# Altium schematic symbol library Reference_Voltage.SchLib: 343 symbols (part 3 of 4)
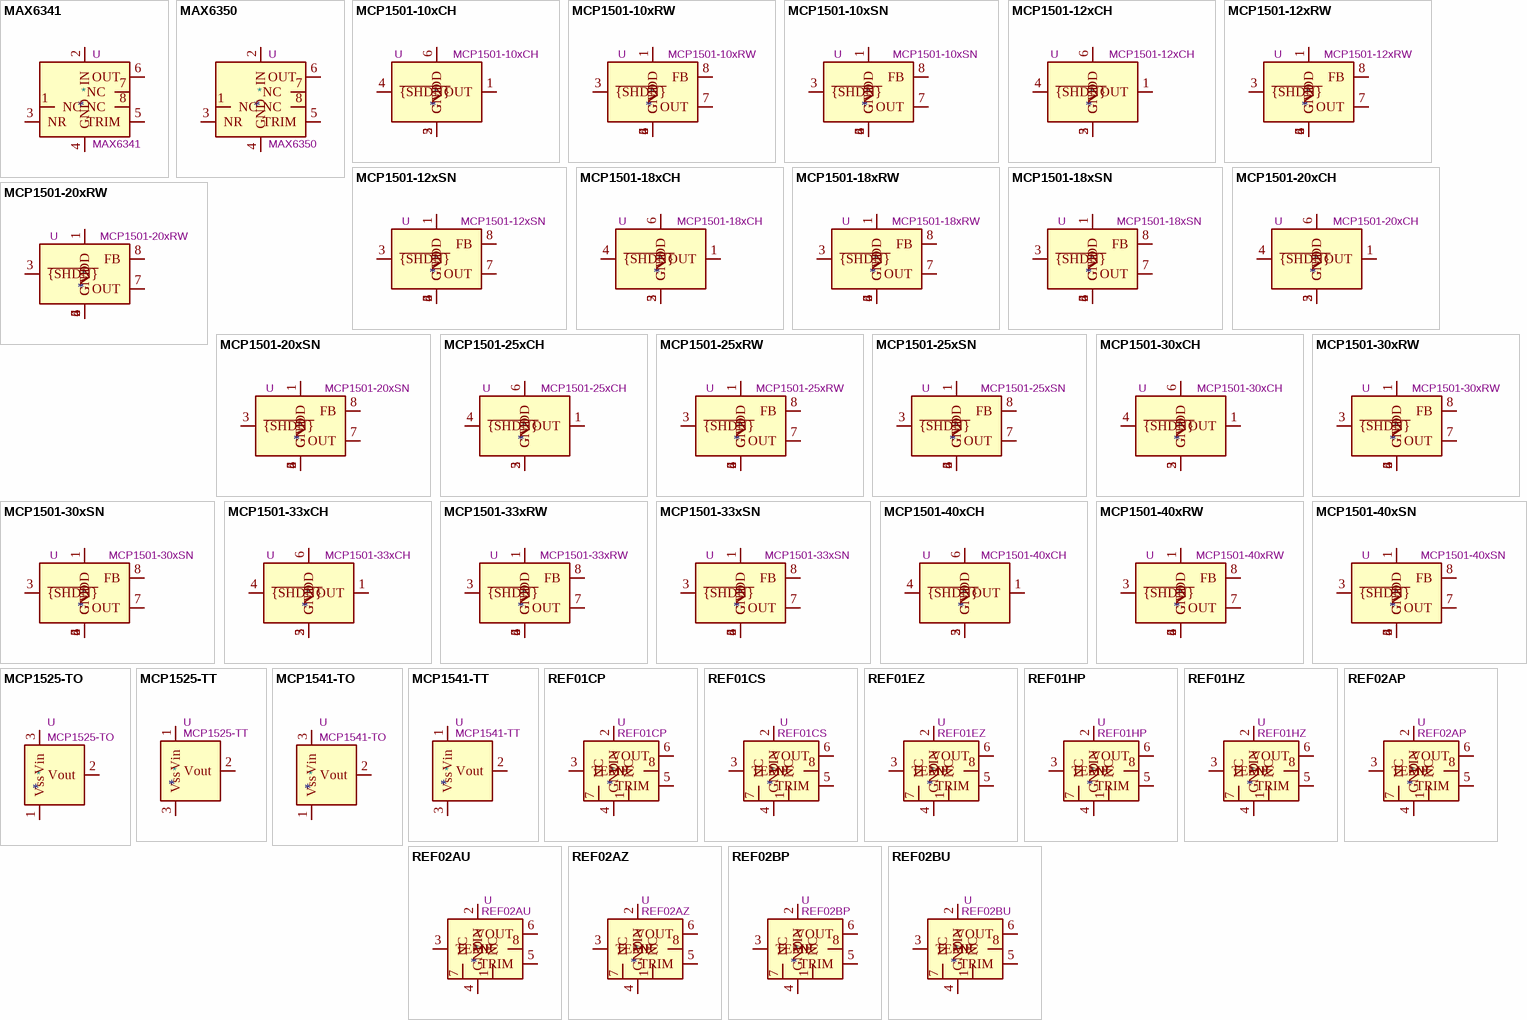
[diagram p10: symbols MAX6341 to REF02BU]

## MCP1501-20xSN
designator *  value MCP1501-20xSN  Reference: U
2.048V, 0.1%, 20mA, Precision Voltage Reference, SOIC-8; ki_keywords: precision buffered voltage reference 2.048V; ki_fp_filters: SOIC*3.9x4.9mm*P1.27mm*; Footprint: Package_SO:SOIC-8_3.9x4.9mm_P1.27mm; Datasheet: http://ww1.microchip.com/downloads/en/DeviceDoc/20005474E.pdf; Description_: 2.048V, 0.1%, 20mA, Precision Voltage Reference, SOIC-8
pins: 1 VDD, 2 GND, 3 ~{{SHDN}}, 4 GND, 5 GND, 6 GND, 7 OUT, 8 FB

## MCP1501-25xCH
designator *  value MCP1501-25xCH  Reference: U
2.5V, 0.1%, 20mA, Precision Voltage Reference, SOT-23-6; ki_keywords: precision buffered voltage reference 2.5V; ki_fp_filters: SOT?23*; Footprint: Package_TO_SOT_SMD:SOT-23-6; Datasheet: http://ww1.microchip.com/downloads/en/DeviceDoc/20005474E.pdf; Description_: 2.5V, 0.1%, 20mA, Precision Voltage Reference, SOT-23-6
pins: 1 OUT, 2 GND, 3 GND, 4 ~{{SHDN}}, 5 GND, 6 VDD

## MCP1501-25xRW
designator *  value MCP1501-25xRW  Reference: U
2.5V, 0.1%, 20mA, Precision Voltage Reference, WDFN-8; ki_keywords: precision buffered voltage reference 2.5V; ki_fp_filters: WDFN*1EP*2x2mm*P0.5mm*; Footprint: Package_DFN_QFN:WDFN-8-1EP_2x2mm_P0.5mm_EP0.8x1.2mm; Datasheet: http://ww1.microchip.com/downloads/en/DeviceDoc/20005474E.pdf; Description_: 2.5V, 0.1%, 20mA, Precision Voltage Reference, WDFN-8
pins: 1 VDD, 2 GND, 3 ~{{SHDN}}, 4 GND, 5 GND, 6 GND, 7 OUT, 8 FB

## MCP1501-25xSN
designator *  value MCP1501-25xSN  Reference: U
2.5V, 0.1%, 20mA, Precision Voltage Reference, SOIC-8; ki_keywords: precision buffered voltage reference 2.5V; ki_fp_filters: SOIC*3.9x4.9mm*P1.27mm*; Footprint: Package_SO:SOIC-8_3.9x4.9mm_P1.27mm; Datasheet: http://ww1.microchip.com/downloads/en/DeviceDoc/20005474E.pdf; Description_: 2.5V, 0.1%, 20mA, Precision Voltage Reference, SOIC-8
pins: 1 VDD, 2 GND, 3 ~{{SHDN}}, 4 GND, 5 GND, 6 GND, 7 OUT, 8 FB

## MCP1501-30xCH
designator *  value MCP1501-30xCH  Reference: U
3V, 0.1%, 20mA, Precision Voltage Reference, SOT-23-6; ki_keywords: precision buffered voltage reference 3V; ki_fp_filters: SOT?23*; Footprint: Package_TO_SOT_SMD:SOT-23-6; Datasheet: http://ww1.microchip.com/downloads/en/DeviceDoc/20005474E.pdf; Description_: 3V, 0.1%, 20mA, Precision Voltage Reference, SOT-23-6
pins: 1 OUT, 2 GND, 3 GND, 4 ~{{SHDN}}, 5 GND, 6 VDD

## MCP1501-30xRW
designator *  value MCP1501-30xRW  Reference: U
3V, 0.1%, 20mA, Precision Voltage Reference, WDFN-8; ki_keywords: precision buffered voltage reference 3V; ki_fp_filters: WDFN*1EP*2x2mm*P0.5mm*; Footprint: Package_DFN_QFN:WDFN-8-1EP_2x2mm_P0.5mm_EP0.8x1.2mm; Datasheet: http://ww1.microchip.com/downloads/en/DeviceDoc/20005474E.pdf; Description_: 3V, 0.1%, 20mA, Precision Voltage Reference, WDFN-8
pins: 1 VDD, 2 GND, 3 ~{{SHDN}}, 4 GND, 5 GND, 6 GND, 7 OUT, 8 FB

## MCP1501-30xSN
designator *  value MCP1501-30xSN  Reference: U
3V, 0.1%, 20mA, Precision Voltage Reference, SOIC-8; ki_keywords: precision buffered voltage reference 3V; ki_fp_filters: SOIC*3.9x4.9mm*P1.27mm*; Footprint: Package_SO:SOIC-8_3.9x4.9mm_P1.27mm; Datasheet: http://ww1.microchip.com/downloads/en/DeviceDoc/20005474E.pdf; Description_: 3V, 0.1%, 20mA, Precision Voltage Reference, SOIC-8
pins: 1 VDD, 2 GND, 3 ~{{SHDN}}, 4 GND, 5 GND, 6 GND, 7 OUT, 8 FB

## MCP1501-33xCH
designator *  value MCP1501-33xCH  Reference: U
3.3V, 0.1%, 20mA, Precision Voltage Reference, SOT-23-6; ki_keywords: precision buffered voltage reference 3.3V; ki_fp_filters: SOT?23*; Footprint: Package_TO_SOT_SMD:SOT-23-6; Datasheet: http://ww1.microchip.com/downloads/en/DeviceDoc/20005474E.pdf; Description_: 3.3V, 0.1%, 20mA, Precision Voltage Reference, SOT-23-6
pins: 1 OUT, 2 GND, 3 GND, 4 ~{{SHDN}}, 5 GND, 6 VDD

## MCP1501-33xRW
designator *  value MCP1501-33xRW  Reference: U
3.3V, 0.1%, 20mA, Precision Voltage Reference, WDFN-8; ki_keywords: precision buffered voltage reference 3.3V; ki_fp_filters: WDFN*1EP*2x2mm*P0.5mm*; Footprint: Package_DFN_QFN:WDFN-8-1EP_2x2mm_P0.5mm_EP0.8x1.2mm; Datasheet: http://ww1.microchip.com/downloads/en/DeviceDoc/20005474E.pdf; Description_: 3.3V, 0.1%, 20mA, Precision Voltage Reference, WDFN-8
pins: 1 VDD, 2 GND, 3 ~{{SHDN}}, 4 GND, 5 GND, 6 GND, 7 OUT, 8 FB

## MCP1501-33xSN
designator *  value MCP1501-33xSN  Reference: U
3.3V, 0.1%, 20mA, Precision Voltage Reference, SOIC-8; ki_keywords: precision buffered voltage reference 3.3V; ki_fp_filters: SOIC*3.9x4.9mm*P1.27mm*; Footprint: Package_SO:SOIC-8_3.9x4.9mm_P1.27mm; Datasheet: http://ww1.microchip.com/downloads/en/DeviceDoc/20005474E.pdf; Description_: 3.3V, 0.1%, 20mA, Precision Voltage Reference, SOIC-8
pins: 1 VDD, 2 GND, 3 ~{{SHDN}}, 4 GND, 5 GND, 6 GND, 7 OUT, 8 FB

## MCP1501-40xCH
designator *  value MCP1501-40xCH  Reference: U
4.096V, 0.1%, 20mA, Precision Voltage Reference, SOT-23-6; ki_keywords: precision buffered voltage reference 4.096V; ki_fp_filters: SOT?23*; Footprint: Package_TO_SOT_SMD:SOT-23-6; Datasheet: http://ww1.microchip.com/downloads/en/DeviceDoc/20005474E.pdf; Description_: 4.096V, 0.1%, 20mA, Precision Voltage Reference, SOT-23-6
pins: 1 OUT, 2 GND, 3 GND, 4 ~{{SHDN}}, 5 GND, 6 VDD

## MCP1501-40xRW
designator *  value MCP1501-40xRW  Reference: U
4.096V, 0.1%, 20mA, Precision Voltage Reference, WDFN-8; ki_keywords: precision buffered voltage reference 4.096V; ki_fp_filters: WDFN*1EP*2x2mm*P0.5mm*; Footprint: Package_DFN_QFN:WDFN-8-1EP_2x2mm_P0.5mm_EP0.8x1.2mm; Datasheet: http://ww1.microchip.com/downloads/en/DeviceDoc/20005474E.pdf; Description_: 4.096V, 0.1%, 20mA, Precision Voltage Reference, WDFN-8
pins: 1 VDD, 2 GND, 3 ~{{SHDN}}, 4 GND, 5 GND, 6 GND, 7 OUT, 8 FB

## MCP1501-40xSN
designator *  value MCP1501-40xSN  Reference: U
4.096V, 0.1%, 20mA, Precision Voltage Reference, SOIC-8; ki_keywords: precision buffered voltage reference 4.096V; ki_fp_filters: SOIC*3.9x4.9mm*P1.27mm*; Footprint: Package_SO:SOIC-8_3.9x4.9mm_P1.27mm; Datasheet: http://ww1.microchip.com/downloads/en/DeviceDoc/20005474E.pdf; Description_: 4.096V, 0.1%, 20mA, Precision Voltage Reference, SOIC-8
pins: 1 VDD, 2 GND, 3 ~{{SHDN}}, 4 GND, 5 GND, 6 GND, 7 OUT, 8 FB

## MCP1525-TO
designator *  value MCP1525-TO  Reference: U
2.5V Voltage Reference, TO-92; ki_keywords: Voltage Reference 2.5V; ki_fp_filters: TO*92*; Footprint: Package_TO_SOT_THT:TO-92_Inline; Datasheet: http://ww1.microchip.com/downloads/en/devicedoc/21653b.pdf; Description_: 2.5V Voltage Reference, TO-92
pins: 1 Vss, 2 Vout, 3 Vin

## MCP1525-TT
designator *  value MCP1525-TT  Reference: U
2.5V Voltage Reference, SOT-23; ki_keywords: Voltage Reference 2.5V; ki_fp_filters: SOT?23*; Footprint: Package_TO_SOT_SMD:SOT-23; Datasheet: http://ww1.microchip.com/downloads/en/devicedoc/21653b.pdf; Description_: 2.5V Voltage Reference, SOT-23
pins: 1 Vin, 2 Vout, 3 Vss

## MCP1541-TO
designator *  value MCP1541-TO  Reference: U
4.096V Voltage Reference, TO-92; ki_keywords: Voltage Reference 4.096V; ki_fp_filters: TO*92*; Footprint: Package_TO_SOT_THT:TO-92_Inline; Datasheet: http://ww1.microchip.com/downloads/en/devicedoc/21653b.pdf; Description_: 4.096V Voltage Reference, TO-92
pins: 1 Vss, 2 Vout, 3 Vin

## MCP1541-TT
designator *  value MCP1541-TT  Reference: U
4.096V Voltage Reference, SOT-23; ki_keywords: Voltage Reference 4.096V; ki_fp_filters: SOT?23*; Footprint: Package_TO_SOT_SMD:SOT-23; Datasheet: http://ww1.microchip.com/downloads/en/devicedoc/21653b.pdf; Description_: 4.096V Voltage Reference, SOT-23
pins: 1 Vin, 2 Vout, 3 Vss

## REF01CP
designator *  value REF01CP  Reference: U
10V ±100mV Precision Voltage Reference, PDIP-8; ki_keywords: Precision Voltage Reference 10V; ki_fp_filters: DIP*W7.62mm*; Footprint: Package_DIP:DIP-8_W7.62mm; Datasheet: https://www.analog.com/media/en/technical-documentation/data-sheets/REF01_02_03.pdf; Description_: 10V ±100mV Precision Voltage Reference, PDIP-8
pins: 1 NC, 2 VIN, 3 TEMP, 4 GND, 5 TRIM, 6 VOUT, 7 NC, 8 NC

## REF01CS
designator *  value REF01CS  Reference: U
10V ±100mV Precision Voltage Reference, SO-8; ki_keywords: Precision Voltage Reference 10V; ki_fp_filters: SOIC*3.9x4.9mm*P1.27mm*; Footprint: Package_SO:SOIC-8_3.9x4.9mm_P1.27mm; Datasheet: https://www.analog.com/media/en/technical-documentation/data-sheets/REF01_02_03.pdf; Description_: 10V ±100mV Precision Voltage Reference, SO-8
pins: 1 NC, 2 VIN, 3 TEMP, 4 GND, 5 TRIM, 6 VOUT, 7 NC, 8 NC

## REF01EZ
designator *  value REF01EZ  Reference: U
10V ±30mV Precision Voltage Reference, CERDIP-8; ki_keywords: Precision Voltage Reference 10V; ki_fp_filters: DIP*W7.62mm*; Footprint: Package_DIP:DIP-8_W7.62mm; Datasheet: https://www.analog.com/media/en/technical-documentation/data-sheets/REF01_02_03.pdf; Description_: 10V ±30mV Precision Voltage Reference, CERDIP-8
pins: 1 NC, 2 VIN, 3 TEMP, 4 GND, 5 TRIM, 6 VOUT, 7 NC, 8 NC

## REF01HP
designator *  value REF01HP  Reference: U
10V ±50mV Precision Voltage Reference, PDIP-8; ki_keywords: Precision Voltage Reference 10V; ki_fp_filters: DIP*W7.62mm*; Footprint: Package_DIP:DIP-8_W7.62mm; Datasheet: https://www.analog.com/media/en/technical-documentation/data-sheets/REF01_02_03.pdf; Description_: 10V ±50mV Precision Voltage Reference, PDIP-8
pins: 1 NC, 2 VIN, 3 TEMP, 4 GND, 5 TRIM, 6 VOUT, 7 NC, 8 NC

## REF01HZ
designator *  value REF01HZ  Reference: U
10V ±50mV Precision Voltage Reference, CERDIP-8; ki_keywords: Precision Voltage Reference 10V; ki_fp_filters: DIP*W7.62mm*; Footprint: Package_DIP:DIP-8_W7.62mm; Datasheet: https://www.analog.com/media/en/technical-documentation/data-sheets/REF01_02_03.pdf; Description_: 10V ±50mV Precision Voltage Reference, CERDIP-8
pins: 1 NC, 2 VIN, 3 TEMP, 4 GND, 5 TRIM, 6 VOUT, 7 NC, 8 NC

## REF02AP
designator *  value REF02AP  Reference: U
5V ±15mV Precision Voltage Reference, PDIP-8; ki_keywords: Precision Voltage Reference 5V; ki_fp_filters: DIP*W7.62mm*; Footprint: Package_DIP:DIP-8_W7.62mm; Datasheet: http://www.ti.com/lit/ds/symlink/ref02.pdf; Description_: 5V ±15mV Precision Voltage Reference, PDIP-8
pins: 1 NC, 2 VIN, 3 TEMP, 4 GND, 5 TRIM, 6 VOUT, 7 NC, 8 NC

## REF02AU
designator *  value REF02AU  Reference: U
5V ±15mV Precision Voltage Reference, SO-8; ki_keywords: Precision Voltage Reference 5V; ki_fp_filters: SOIC*3.9x4.9mm*P1.27mm*; Footprint: Package_SO:SOIC-8_3.9x4.9mm_P1.27mm; Datasheet: http://www.ti.com/lit/ds/symlink/ref02.pdf; Description_: 5V ±15mV Precision Voltage Reference, SO-8
pins: 1 NC, 2 VIN, 3 TEMP, 4 GND, 5 TRIM, 6 VOUT, 7 NC, 8 NC

## REF02AZ
designator *  value REF02AZ  Reference: U
5V ±15mV Precision Voltage Reference, CERDIP-8; ki_keywords: Precision Voltage Reference 5V; ki_fp_filters: DIP*W7.62mm*; Footprint: Package_DIP:DIP-8_W7.62mm; Datasheet: https://www.analog.com/media/en/technical-documentation/data-sheets/REF01_02_03.pdf; Description_: 5V ±15mV Precision Voltage Reference, CERDIP-8
pins: 1 NC, 2 VIN, 3 TEMP, 4 GND, 5 TRIM, 6 VOUT, 7 NC, 8 NC

## REF02BP
designator *  value REF02BP  Reference: U
5V ±10mV Precision Voltage Reference, PDIP-8; ki_keywords: Precision Voltage Reference 5V; ki_fp_filters: DIP*W7.62mm*; Footprint: Package_DIP:DIP-8_W7.62mm; Datasheet: http://www.ti.com/lit/ds/symlink/ref02.pdf; Description_: 5V ±10mV Precision Voltage Reference, PDIP-8
pins: 1 NC, 2 VIN, 3 TEMP, 4 GND, 5 TRIM, 6 VOUT, 7 NC, 8 NC

## REF02BU
designator *  value REF02BU  Reference: U
5V ±10mV Precision Voltage Reference, SO-8; ki_keywords: Precision Voltage Reference 5V; ki_fp_filters: SOIC*3.9x4.9mm*P1.27mm*; Footprint: Package_SO:SOIC-8_3.9x4.9mm_P1.27mm; Datasheet: http://www.ti.com/lit/ds/symlink/ref02.pdf; Description_: 5V ±10mV Precision Voltage Reference, SO-8
pins: 1 NC, 2 VIN, 3 TEMP, 4 GND, 5 TRIM, 6 VOUT, 7 NC, 8 NC

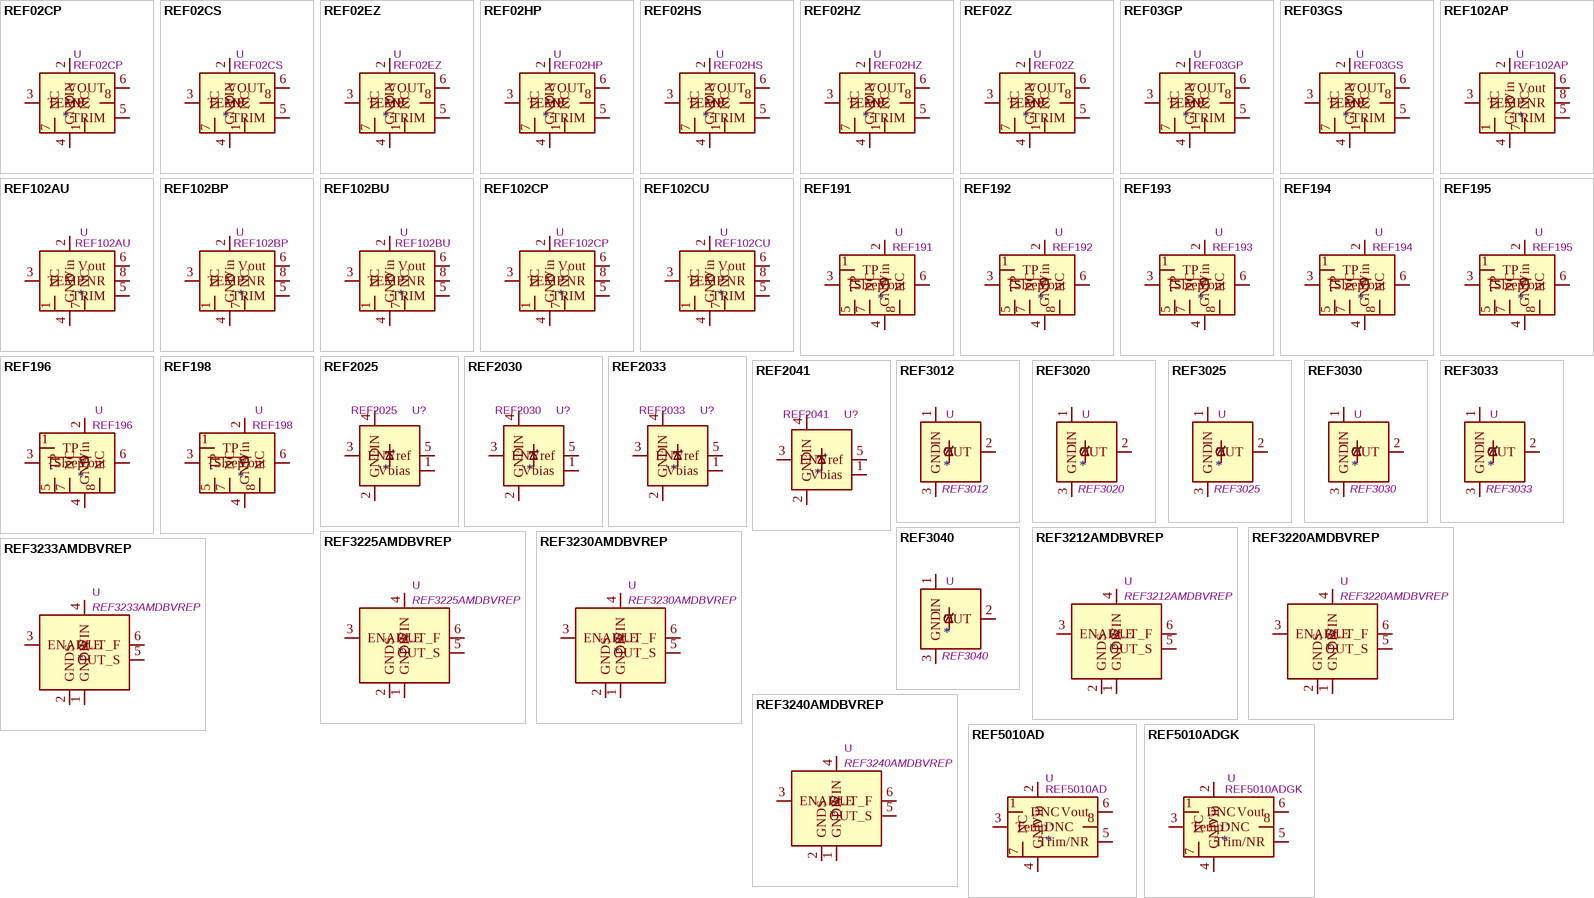
[diagram p6: symbols REF02CP to REF5010ADGK]

## REF02CP
designator *  value REF02CP  Reference: U
5V ±50mV Precision Voltage Reference, PDIP-8; ki_keywords: Precision Voltage Reference 5V; ki_fp_filters: DIP*W7.62mm*; Footprint: Package_DIP:DIP-8_W7.62mm; Datasheet: https://www.analog.com/media/en/technical-documentation/data-sheets/REF01_02_03.pdf; Description_: 5V ±50mV Precision Voltage Reference, PDIP-8
pins: 1 NC, 2 VIN, 3 TEMP, 4 GND, 5 TRIM, 6 VOUT, 7 NC, 8 NC

## REF02CS
designator *  value REF02CS  Reference: U
5V ±50mV Precision Voltage Reference, SO-8; ki_keywords: Precision Voltage Reference 5V; ki_fp_filters: SOIC*3.9x4.9mm*P1.27mm*; Footprint: Package_SO:SOIC-8_3.9x4.9mm_P1.27mm; Datasheet: https://www.analog.com/media/en/technical-documentation/data-sheets/REF01_02_03.pdf; Description_: 5V ±50mV Precision Voltage Reference, SO-8
pins: 1 NC, 2 VIN, 3 TEMP, 4 GND, 5 TRIM, 6 VOUT, 7 NC, 8 NC

## REF02EZ
designator *  value REF02EZ  Reference: U
5V ±15mV Precision Voltage Reference, CERDIP-8; ki_keywords: Precision Voltage Reference 5V; ki_fp_filters: DIP*W7.62mm*; Footprint: Package_DIP:DIP-8_W7.62mm; Datasheet: https://www.analog.com/media/en/technical-documentation/data-sheets/REF01_02_03.pdf; Description_: 5V ±15mV Precision Voltage Reference, CERDIP-8
pins: 1 NC, 2 VIN, 3 TEMP, 4 GND, 5 TRIM, 6 VOUT, 7 NC, 8 NC

## REF02HP
designator *  value REF02HP  Reference: U
5V ±25mV Precision Voltage Reference, PDIP-8; ki_keywords: Precision Voltage Reference 5V; ki_fp_filters: DIP*W7.62mm*; Footprint: Package_DIP:DIP-8_W7.62mm; Datasheet: https://www.analog.com/media/en/technical-documentation/data-sheets/REF01_02_03.pdf; Description_: 5V ±25mV Precision Voltage Reference, PDIP-8
pins: 1 NC, 2 VIN, 3 TEMP, 4 GND, 5 TRIM, 6 VOUT, 7 NC, 8 NC

## REF02HS
designator *  value REF02HS  Reference: U
5V ±25mV Precision Voltage Reference, SO-8; ki_keywords: Precision Voltage Reference 5V; ki_fp_filters: SOIC*3.9x4.9mm*P1.27mm*; Footprint: Package_SO:SOIC-8_3.9x4.9mm_P1.27mm; Datasheet: https://www.analog.com/media/en/technical-documentation/data-sheets/REF01_02_03.pdf; Description_: 5V ±25mV Precision Voltage Reference, SO-8
pins: 1 NC, 2 VIN, 3 TEMP, 4 GND, 5 TRIM, 6 VOUT, 7 NC, 8 NC

## REF02HZ
designator *  value REF02HZ  Reference: U
5V ±25mV Precision Voltage Reference, CERDIP-8; ki_keywords: Precision Voltage Reference 5V; ki_fp_filters: DIP*W7.62mm*; Footprint: Package_DIP:DIP-8_W7.62mm; Datasheet: https://www.analog.com/media/en/technical-documentation/data-sheets/REF01_02_03.pdf; Description_: 5V ±25mV Precision Voltage Reference, CERDIP-8
pins: 1 NC, 2 VIN, 3 TEMP, 4 GND, 5 TRIM, 6 VOUT, 7 NC, 8 NC

## REF02Z
designator *  value REF02Z  Reference: U
5V ±25mV Precision Voltage Reference, CERDIP-8; ki_keywords: Precision Voltage Reference 5V; ki_fp_filters: DIP*W7.62mm*; Footprint: Package_DIP:DIP-8_W7.62mm; Datasheet: https://www.analog.com/media/en/technical-documentation/data-sheets/REF01_02_03.pdf; Description_: 5V ±25mV Precision Voltage Reference, CERDIP-8
pins: 1 NC, 2 VIN, 3 TEMP, 4 GND, 5 TRIM, 6 VOUT, 7 NC, 8 NC

## REF03GP
designator *  value REF03GP  Reference: U
2.5V ±15mV Precision Voltage Reference, PDIP-8; ki_keywords: Precision Voltage Reference 2.5V; ki_fp_filters: DIP*W7.62mm*; Footprint: Package_DIP:DIP-8_W7.62mm; Datasheet: https://www.analog.com/media/en/technical-documentation/data-sheets/REF01_02_03.pdf; Description_: 2.5V ±15mV Precision Voltage Reference, PDIP-8
pins: 1 NC, 2 VIN, 3 TEMP, 4 GND, 5 TRIM, 6 VOUT, 7 NC, 8 NC

## REF03GS
designator *  value REF03GS  Reference: U
2.5V ±15mV Precision Voltage Reference, SO-8; ki_keywords: Precision Voltage Reference 2.5V; ki_fp_filters: SOIC*3.9x4.9mm*P1.27mm*; Footprint: Package_SO:SOIC-8_3.9x4.9mm_P1.27mm; Datasheet: https://www.analog.com/media/en/technical-documentation/data-sheets/REF01_02_03.pdf; Description_: 2.5V ±15mV Precision Voltage Reference, SO-8
pins: 1 NC, 2 VIN, 3 TEMP, 4 GND, 5 TRIM, 6 VOUT, 7 NC, 8 NC

## REF102AP
designator *  value REF102AP  Reference: U
10V ±10mV Precision Voltage Reference, PDIP-8; ki_keywords: Precision Voltage Reference 10V; ki_fp_filters: DIP*W7.62mm*; Footprint: Package_DIP:DIP-8_W7.62mm; Datasheet: http://www.ti.com/lit/ds/symlink/ref102.pdf; Description_: 10V ±10mV Precision Voltage Reference, PDIP-8
pins: 1 NC, 2 Vin, 3 TEMP, 4 GND, 5 TRIM, 6 Vout, 7 NC, 8 NR

## REF102AU
designator *  value REF102AU  Reference: U
10V ±10mV Precision Voltage Reference, SO-8; ki_keywords: Precision Voltage Reference 10V; ki_fp_filters: SOIC*3.9x4.9mm*P1.27mm*; Footprint: Package_SO:SOIC-8_3.9x4.9mm_P1.27mm; Datasheet: http://www.ti.com/lit/ds/symlink/ref02.pdf; Description_: 10V ±10mV Precision Voltage Reference, SO-8
pins: 1 NC, 2 Vin, 3 TEMP, 4 GND, 5 TRIM, 6 Vout, 7 NC, 8 NR

## REF102BP
designator *  value REF102BP  Reference: U
10V ±5mV Precision Voltage Reference, PDIP-8; ki_keywords: Precision Voltage Reference 10V; ki_fp_filters: DIP*W7.62mm*; Footprint: Package_DIP:DIP-8_W7.62mm; Datasheet: http://www.ti.com/lit/ds/symlink/ref102.pdf; Description_: 10V ±5mV Precision Voltage Reference, PDIP-8
pins: 1 NC, 2 Vin, 3 TEMP, 4 GND, 5 TRIM, 6 Vout, 7 NC, 8 NR

## REF102BU
designator *  value REF102BU  Reference: U
10V ±5mV Precision Voltage Reference, SO-8; ki_keywords: Precision Voltage Reference 10V; ki_fp_filters: SOIC*3.9x4.9mm*P1.27mm*; Footprint: Package_SO:SOIC-8_3.9x4.9mm_P1.27mm; Datasheet: http://www.ti.com/lit/ds/symlink/ref02.pdf; Description_: 10V ±5mV Precision Voltage Reference, SO-8
pins: 1 NC, 2 Vin, 3 TEMP, 4 GND, 5 TRIM, 6 Vout, 7 NC, 8 NR

## REF102CP
designator *  value REF102CP  Reference: U
10V ±2.5mV Precision Voltage Reference, PDIP-8; ki_keywords: Precision Voltage Reference 10V; ki_fp_filters: DIP*W7.62mm*; Footprint: Package_DIP:DIP-8_W7.62mm; Datasheet: http://www.ti.com/lit/ds/symlink/ref102.pdf; Description_: 10V ±2.5mV Precision Voltage Reference, PDIP-8
pins: 1 NC, 2 Vin, 3 TEMP, 4 GND, 5 TRIM, 6 Vout, 7 NC, 8 NR

## REF102CU
designator *  value REF102CU  Reference: U
10V ±2.5mV Precision Voltage Reference, SO-8; ki_keywords: Precision Voltage Reference 10V; ki_fp_filters: SOIC*3.9x4.9mm*P1.27mm*; Footprint: Package_SO:SOIC-8_3.9x4.9mm_P1.27mm; Datasheet: http://www.ti.com/lit/ds/symlink/ref02.pdf; Description_: 10V ±2.5mV Precision Voltage Reference, SO-8
pins: 1 NC, 2 Vin, 3 TEMP, 4 GND, 5 TRIM, 6 Vout, 7 NC, 8 NR

## REF191
designator *  value REF191  Reference: U
Precision voltage references 2.048V, DIP-8/SO-8/TSSOP-8; ki_fp_filters: DIP*W7.62mm* SOIC*3.9x4.9m*P1.27mm* TSSOP*4.4x3mm*P0.65mm*; Datasheet: https://www.analog.com/static/imported-files/data_sheets/REF19xSeries.pdf; Description_: Precision voltage references 2.048V, DIP-8/SO-8/TSSOP-8; ki_keywords: Precision voltage references
pins: 1 TP, 2 Vin, 3 ~{{Sleep}}, 4 GND, 5 TP, 6 Vout, 7 NC, 8 NC

## REF192
designator *  value REF192  Reference: U
Precision voltage references 2.5V, DIP-8/SO-8/TSSOP-8; ki_fp_filters: DIP*W7.62mm* SOIC*3.9x4.9m*P1.27mm* TSSOP*4.4x3mm*P0.65mm*; Datasheet: https://www.analog.com/static/imported-files/data_sheets/REF19xSeries.pdf; Description_: Precision voltage references 2.5V, DIP-8/SO-8/TSSOP-8; ki_keywords: Precision voltage references
pins: 1 TP, 2 Vin, 3 ~{{Sleep}}, 4 GND, 5 TP, 6 Vout, 7 NC, 8 NC

## REF193
designator *  value REF193  Reference: U
Precision voltage references 3V, DIP-8/SO-8/TSSOP-8; ki_fp_filters: DIP*W7.62mm* SOIC*3.9x4.9m*P1.27mm* TSSOP*4.4x3mm*P0.65mm*; Datasheet: https://www.analog.com/static/imported-files/data_sheets/REF19xSeries.pdf; Description_: Precision voltage references 3V, DIP-8/SO-8/TSSOP-8; ki_keywords: Precision voltage references
pins: 1 TP, 2 Vin, 3 ~{{Sleep}}, 4 GND, 5 TP, 6 Vout, 7 NC, 8 NC

## REF194
designator *  value REF194  Reference: U
Precision voltage references 4.5V, DIP-8/SO-8/TSSOP-8; ki_fp_filters: DIP*W7.62mm* SOIC*3.9x4.9m*P1.27mm* TSSOP*4.4x3mm*P0.65mm*; Datasheet: https://www.analog.com/static/imported-files/data_sheets/REF19xSeries.pdf; Description_: Precision voltage references 4.5V, DIP-8/SO-8/TSSOP-8; ki_keywords: Precision voltage references
pins: 1 TP, 2 Vin, 3 ~{{Sleep}}, 4 GND, 5 TP, 6 Vout, 7 NC, 8 NC

## REF195
designator *  value REF195  Reference: U
Precision voltage references 5V, DIP-8/SO-8/TSSOP-8; ki_fp_filters: DIP*W7.62mm* SOIC*3.9x4.9m*P1.27mm* TSSOP*4.4x3mm*P0.65mm*; Datasheet: https://www.analog.com/static/imported-files/data_sheets/REF19xSeries.pdf; Description_: Precision voltage references 5V, DIP-8/SO-8/TSSOP-8; ki_keywords: Precision voltage references
pins: 1 TP, 2 Vin, 3 ~{{Sleep}}, 4 GND, 5 TP, 6 Vout, 7 NC, 8 NC

## REF196
designator *  value REF196  Reference: U
Precision voltage references 3.3V, DIP-8/SO-8/TSSOP-8; ki_fp_filters: DIP*W7.62mm* SOIC*3.9x4.9m*P1.27mm* TSSOP*4.4x3mm*P0.65mm*; Datasheet: https://www.analog.com/static/imported-files/data_sheets/REF19xSeries.pdf; Description_: Precision voltage references 3.3V, DIP-8/SO-8/TSSOP-8; ki_keywords: Precision voltage references
pins: 1 TP, 2 Vin, 3 ~{{Sleep}}, 4 GND, 5 TP, 6 Vout, 7 NC, 8 NC

## REF198
designator *  value REF198  Reference: U
Precision voltage references 4.096V, DIP-8/SO-8/TSSOP-8; ki_fp_filters: DIP*W7.62mm* SOIC*3.9x4.9m*P1.27mm* TSSOP*4.4x3mm*P0.65mm*; Datasheet: https://www.analog.com/static/imported-files/data_sheets/REF19xSeries.pdf; Description_: Precision voltage references 4.096V, DIP-8/SO-8/TSSOP-8; ki_keywords: Precision voltage references
pins: 1 TP, 2 Vin, 3 ~{{Sleep}}, 4 GND, 5 TP, 6 Vout, 7 NC, 8 NC

## REF2025
designator *  value REF2025  Reference: U?
2.5V Low-Drift, Low-Power, Dual-Output, VREF and VREF / 2 Voltage Reference, SOT-23-5; ki_fp_filters: SOT?23*; Footprint: Package_TO_SOT_SMD:SOT-23-5; Datasheet: https://www.ti.com/lit/ds/symlink/ref2033.pdf; Description_: 2.5V Low-Drift, Low-Power, Dual-Output, VREF and VREF / 2 Voltage Reference, SOT-23-5; ki_keywords: voltage reference
pins: 1 Vbias, 2 GND, 3 EN, 4 IN, 5 Vref

## REF2030
designator *  value REF2030  Reference: U?
3.0V Low-Drift, Low-Power, Dual-Output, VREF and VREF / 2 Voltage Reference, SOT-23-5; ki_fp_filters: SOT?23*; Footprint: Package_TO_SOT_SMD:SOT-23-5; Datasheet: https://www.ti.com/lit/ds/symlink/ref2033.pdf; Description_: 3.0V Low-Drift, Low-Power, Dual-Output, VREF and VREF / 2 Voltage Reference, SOT-23-5; ki_keywords: voltage reference
pins: 1 Vbias, 2 GND, 3 EN, 4 IN, 5 Vref

## REF2033
designator *  value REF2033  Reference: U?
3.3V Low-Drift, Low-Power, Dual-Output, VREF and VREF / 2 Voltage Reference, SOT-23-5; ki_fp_filters: SOT?23*; Footprint: Package_TO_SOT_SMD:SOT-23-5; Datasheet: https://www.ti.com/lit/ds/symlink/ref2033.pdf; Description_: 3.3V Low-Drift, Low-Power, Dual-Output, VREF and VREF / 2 Voltage Reference, SOT-23-5; ki_keywords: voltage reference
pins: 1 Vbias, 2 GND, 3 EN, 4 IN, 5 Vref

## REF2041
designator *  value REF2041  Reference: U?
4.096V Low-Drift, Low-Power, Dual-Output, VREF and VREF / 2 Voltage Reference, SOT-23-5; ki_fp_filters: SOT?23*; Footprint: Package_TO_SOT_SMD:SOT-23-5; Datasheet: https://www.ti.com/lit/ds/symlink/ref2033.pdf; Description_: 4.096V Low-Drift, Low-Power, Dual-Output, VREF and VREF / 2 Voltage Reference, SOT-23-5; ki_keywords: voltage reference
pins: 1 Vbias, 2 GND, 3 EN, 4 IN, 5 Vref

## REF3012
designator *  value REF3012  Reference: U
1.25V 50-ppm/°C Max, 50-μA, CMOS Voltage Reference, SOT-23-3; ki_fp_filters: SOT?23*; Footprint: Package_TO_SOT_SMD:SOT-23; Datasheet: http://www.ti.com/lit/ds/symlink/ref3033.pdf; Description_: 1.25V 50-ppm/°C Max, 50-μA, CMOS Voltage Reference, SOT-23-3; ki_keywords: voltage reference
pins: 1 IN, 2 OUT, 3 GND

## REF3020
designator *  value REF3020  Reference: U
2.048V 50-ppm/°C Max, 50-μA, CMOS Voltage Reference, SOT-23-3; ki_fp_filters: SOT?23*; Footprint: Package_TO_SOT_SMD:SOT-23; Datasheet: http://www.ti.com/lit/ds/symlink/ref3033.pdf; Description_: 2.048V 50-ppm/°C Max, 50-μA, CMOS Voltage Reference, SOT-23-3; ki_keywords: voltage reference
pins: 1 IN, 2 OUT, 3 GND

## REF3025
designator *  value REF3025  Reference: U
2.500V 50-ppm/°C Max, 50-μA, CMOS Voltage Reference, SOT-23-3; ki_fp_filters: SOT?23*; Footprint: Package_TO_SOT_SMD:SOT-23; Datasheet: http://www.ti.com/lit/ds/symlink/ref3033.pdf; Description_: 2.500V 50-ppm/°C Max, 50-μA, CMOS Voltage Reference, SOT-23-3; ki_keywords: voltage reference
pins: 1 IN, 2 OUT, 3 GND

## REF3030
designator *  value REF3030  Reference: U
3.0V 50-ppm/°C Max, 50-μA, CMOS Voltage Reference, SOT-23-3; ki_fp_filters: SOT?23*; Footprint: Package_TO_SOT_SMD:SOT-23; Datasheet: http://www.ti.com/lit/ds/symlink/ref3033.pdf; Description_: 3.0V 50-ppm/°C Max, 50-μA, CMOS Voltage Reference, SOT-23-3; ki_keywords: voltage reference
pins: 1 IN, 2 OUT, 3 GND

## REF3033
designator *  value REF3033  Reference: U
3.3V 50-ppm/°C Max, 50-μA, CMOS Voltage Reference, SOT-23-3; ki_fp_filters: SOT?23*; Footprint: Package_TO_SOT_SMD:SOT-23; Datasheet: http://www.ti.com/lit/ds/symlink/ref3033.pdf; Description_: 3.3V 50-ppm/°C Max, 50-μA, CMOS Voltage Reference, SOT-23-3; ki_keywords: voltage reference
pins: 1 IN, 2 OUT, 3 GND

## REF3040
designator *  value REF3040  Reference: U
4.096V 50-ppm/°C Max, 50-μA, CMOS Voltage Reference, SOT-23-3; ki_fp_filters: SOT?23*; Footprint: Package_TO_SOT_SMD:SOT-23; Datasheet: http://www.ti.com/lit/ds/symlink/ref3033.pdf; Description_: 4.096V 50-ppm/°C Max, 50-μA, CMOS Voltage Reference, SOT-23-3; ki_keywords: voltage reference
pins: 1 IN, 2 OUT, 3 GND

## REF3212AMDBVREP
designator *  value REF3212AMDBVREP  Reference: U
1.25V 100μA Micropower Precision Voltage Reference, SOT-23-6; ki_keywords: Micropower Precision Voltage Reference 1.25V; ki_fp_filters: SOT?23*; Footprint: Package_TO_SOT_SMD:SOT-23-6; Datasheet: http://www.ti.com/lit/ds/symlink/ref3240-ep.pdf; Description_: 1.25V 100μA Micropower Precision Voltage Reference, SOT-23-6
pins: 1 GNDF, 2 GNDS, 3 ENABLE, 4 VIN, 5 OUT_S, 6 OUT_F

## REF3220AMDBVREP
designator *  value REF3220AMDBVREP  Reference: U
2.048V 100μA Micropower Precision Voltage Reference, SOT-23-6; ki_keywords: Micropower Precision Voltage Reference 2.048V; ki_fp_filters: SOT?23*; Footprint: Package_TO_SOT_SMD:SOT-23-6; Datasheet: http://www.ti.com/lit/ds/symlink/ref3240-ep.pdf; Description_: 2.048V 100μA Micropower Precision Voltage Reference, SOT-23-6
pins: 1 GNDF, 2 GNDS, 3 ENABLE, 4 VIN, 5 OUT_S, 6 OUT_F

## REF3225AMDBVREP
designator *  value REF3225AMDBVREP  Reference: U
2.5V 100μA Micropower Precision Voltage Reference, SOT-23-6; ki_keywords: Micropower Precision Voltage Reference 2.5V; ki_fp_filters: SOT?23*; Footprint: Package_TO_SOT_SMD:SOT-23-6; Datasheet: http://www.ti.com/lit/ds/symlink/ref3240-ep.pdf; Description_: 2.5V 100μA Micropower Precision Voltage Reference, SOT-23-6
pins: 1 GNDF, 2 GNDS, 3 ENABLE, 4 VIN, 5 OUT_S, 6 OUT_F

## REF3230AMDBVREP
designator *  value REF3230AMDBVREP  Reference: U
3V 100μA Micropower Precision Voltage Reference, SOT-23-6; ki_keywords: Micropower Precision Voltage Reference 3V; ki_fp_filters: SOT?23*; Footprint: Package_TO_SOT_SMD:SOT-23-6; Datasheet: http://www.ti.com/lit/ds/symlink/ref3240-ep.pdf; Description_: 3V 100μA Micropower Precision Voltage Reference, SOT-23-6
pins: 1 GNDF, 2 GNDS, 3 ENABLE, 4 VIN, 5 OUT_S, 6 OUT_F

## REF3233AMDBVREP
designator *  value REF3233AMDBVREP  Reference: U
3.3V 100μA Micropower Precision Voltage Reference, SOT-23-6; ki_keywords: Micropower Precision Voltage Reference 3.3V; ki_fp_filters: SOT?23*; Footprint: Package_TO_SOT_SMD:SOT-23-6; Datasheet: http://www.ti.com/lit/ds/symlink/ref3240-ep.pdf; Description_: 3.3V 100μA Micropower Precision Voltage Reference, SOT-23-6
pins: 1 GNDF, 2 GNDS, 3 ENABLE, 4 VIN, 5 OUT_S, 6 OUT_F

## REF3240AMDBVREP
designator *  value REF3240AMDBVREP  Reference: U
4.096V 100μA Micropower Precision Voltage Reference, SOT-23-6; ki_keywords: Micropower Precision Voltage Reference 4.096V; ki_fp_filters: SOT?23*; Footprint: Package_TO_SOT_SMD:SOT-23-6; Datasheet: http://www.ti.com/lit/ds/symlink/ref3240-ep.pdf; Description_: 4.096V 100μA Micropower Precision Voltage Reference, SOT-23-6
pins: 1 GNDF, 2 GNDS, 3 ENABLE, 4 VIN, 5 OUT_S, 6 OUT_F

## REF5010AD
designator *  value REF5010AD  Reference: U
10V 0.1% 10mA Low Noise Precision Voltage Reference, SO-8; ki_keywords: Low Noise Precision Voltage Reference 10V; ki_fp_filters: SOIC*3.9x4.9mm*P1.27mm*; Footprint: Package_SO:SOIC-8_3.9x4.9mm_P1.27mm; Datasheet: https://www.ti.com/lit/ds/symlink/ref5030a-q1.pdf; Description_: 10V 0.1% 10mA Low Noise Precision Voltage Reference, SO-8
pins: 1 DNC, 2 Vin, 3 Temp, 4 GND, 5 Trim/NR, 6 Vout, 7 NC, 8 DNC

## REF5010ADGK
designator *  value REF5010ADGK  Reference: U
10V 0.1% 10mA Low Noise Precision Voltage Reference, MSOP-8; ki_keywords: Low Noise Precision Voltage Reference 10V; ki_fp_filters: MSOP*3x3mm*P0.65mm*; Footprint: Package_SO:MSOP-8_3x3mm_P0.65mm; Datasheet: https://www.ti.com/lit/ds/symlink/ref5030a-q1.pdf; Description_: 10V 0.1% 10mA Low Noise Precision Voltage Reference, MSOP-8
pins: 1 DNC, 2 Vin, 3 Temp, 4 GND, 5 Trim/NR, 6 Vout, 7 NC, 8 DNC

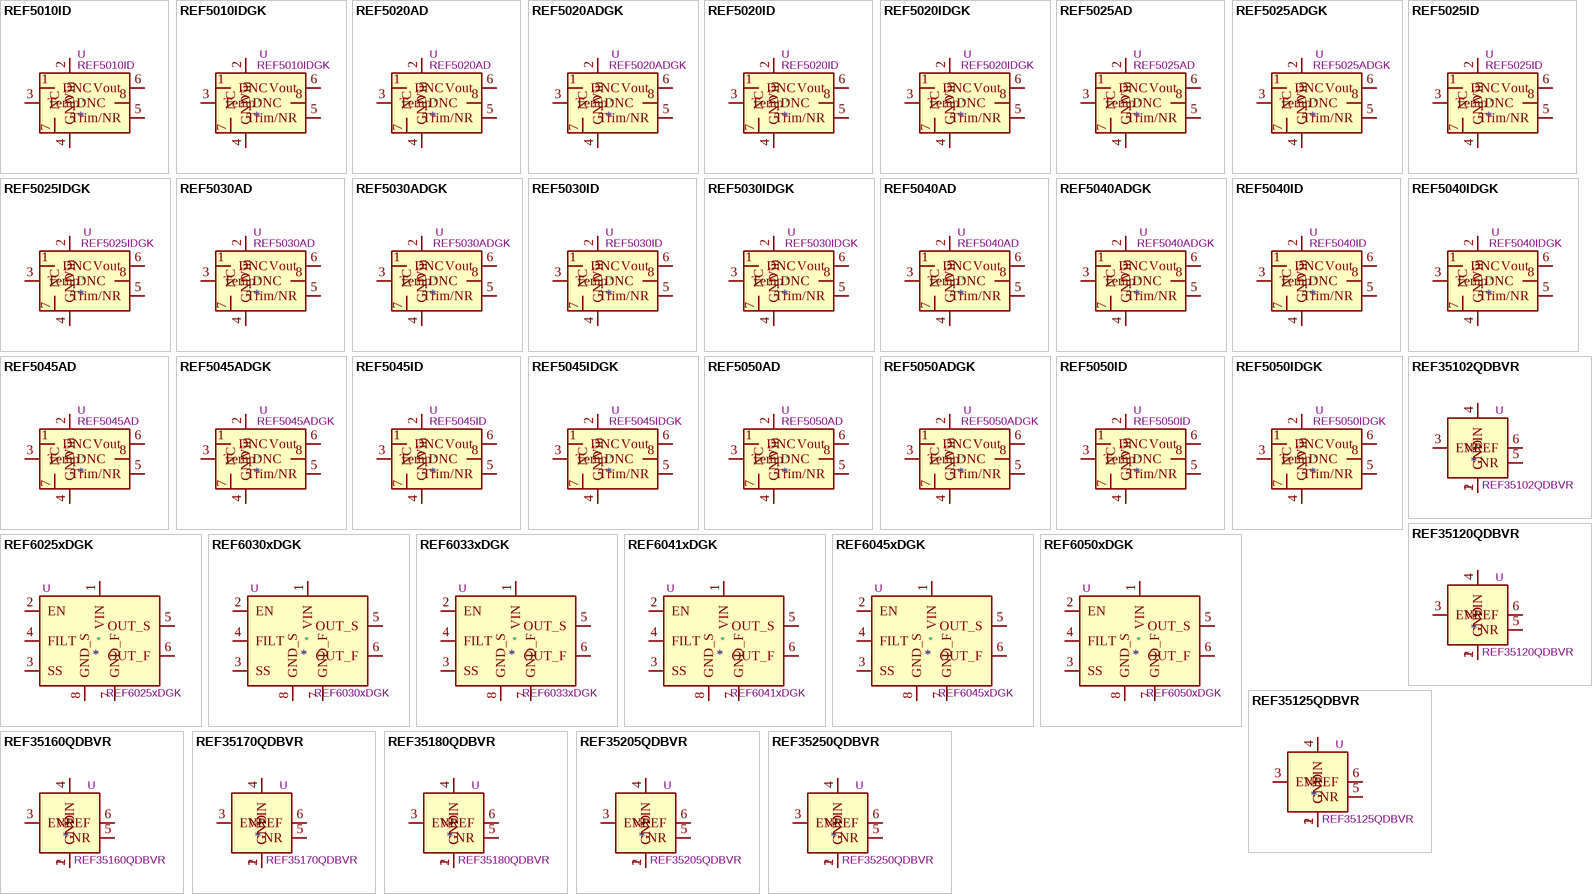
[diagram p7: symbols REF5010ID to REF35250QDBVR]

## REF5010ID
designator *  value REF5010ID  Reference: U
10V 0.05% 10mA Low Noise Precision Voltage Reference, SO-8; ki_keywords: Low Noise Precision Voltage Reference 10V; ki_fp_filters: SOIC*3.9x4.9mm*P1.27mm*; Footprint: Package_SO:SOIC-8_3.9x4.9mm_P1.27mm; Datasheet: https://www.ti.com/lit/ds/symlink/ref50.pdf; Description_: 10V 0.05% 10mA Low Noise Precision Voltage Reference, SO-8
pins: 1 DNC, 2 Vin, 3 Temp, 4 GND, 5 Trim/NR, 6 Vout, 7 NC, 8 DNC

## REF5010IDGK
designator *  value REF5010IDGK  Reference: U
10V 0.05% 10mA Low Noise Precision Voltage Reference, MSOP-8; ki_keywords: Low Noise Precision Voltage Reference 10V; ki_fp_filters: MSOP*3x3mm*P0.65mm*; Footprint: Package_SO:MSOP-8_3x3mm_P0.65mm; Datasheet: https://www.ti.com/lit/ds/symlink/ref50.pdf; Description_: 10V 0.05% 10mA Low Noise Precision Voltage Reference, MSOP-8
pins: 1 DNC, 2 Vin, 3 Temp, 4 GND, 5 Trim/NR, 6 Vout, 7 NC, 8 DNC

## REF5020AD
designator *  value REF5020AD  Reference: U
2.048V 0.1% 10mA Low Noise Precision Voltage Reference, SO-8; ki_keywords: Low Noise Precision Voltage Reference 2.048V; ki_fp_filters: SOIC*3.9x4.9mm*P1.27mm*; Footprint: Package_SO:SOIC-8_3.9x4.9mm_P1.27mm; Datasheet: https://www.ti.com/lit/ds/symlink/ref5030a-q1.pdf; Description_: 2.048V 0.1% 10mA Low Noise Precision Voltage Reference, SO-8
pins: 1 DNC, 2 Vin, 3 Temp, 4 GND, 5 Trim/NR, 6 Vout, 7 NC, 8 DNC

## REF5020ADGK
designator *  value REF5020ADGK  Reference: U
2.048V 0.1% 10mA Low Noise Precision Voltage Reference, MSOP-8; ki_keywords: Low Noise Precision Voltage Reference 2.048V; ki_fp_filters: MSOP*3x3mm*P0.65mm*; Footprint: Package_SO:MSOP-8_3x3mm_P0.65mm; Datasheet: https://www.ti.com/lit/ds/symlink/ref5030a-q1.pdf; Description_: 2.048V 0.1% 10mA Low Noise Precision Voltage Reference, MSOP-8
pins: 1 DNC, 2 Vin, 3 Temp, 4 GND, 5 Trim/NR, 6 Vout, 7 NC, 8 DNC

## REF5020ID
designator *  value REF5020ID  Reference: U
2.048V 0.05% 10mA Low Noise Precision Voltage Reference, SO-8; ki_keywords: Low Noise Precision Voltage Reference 2.048V; ki_fp_filters: SOIC*3.9x4.9mm*P1.27mm*; Footprint: Package_SO:SOIC-8_3.9x4.9mm_P1.27mm; Datasheet: https://www.ti.com/lit/ds/symlink/ref50.pdf; Description_: 2.048V 0.05% 10mA Low Noise Precision Voltage Reference, SO-8
pins: 1 DNC, 2 Vin, 3 Temp, 4 GND, 5 Trim/NR, 6 Vout, 7 NC, 8 DNC

## REF5020IDGK
designator *  value REF5020IDGK  Reference: U
2.048V 0.05% 10mA Low Noise Precision Voltage Reference, MSOP-8; ki_keywords: Low Noise Precision Voltage Reference 2.048V; ki_fp_filters: MSOP*3x3mm*P0.65mm*; Footprint: Package_SO:MSOP-8_3x3mm_P0.65mm; Datasheet: https://www.ti.com/lit/ds/symlink/ref50.pdf; Description_: 2.048V 0.05% 10mA Low Noise Precision Voltage Reference, MSOP-8
pins: 1 DNC, 2 Vin, 3 Temp, 4 GND, 5 Trim/NR, 6 Vout, 7 NC, 8 DNC

## REF5025AD
designator *  value REF5025AD  Reference: U
2.5V 0.1% 10mA Low Noise Precision Voltage Reference, SO-8; ki_keywords: Low Noise Precision Voltage Reference 2.5V; ki_fp_filters: SOIC*3.9x4.9mm*P1.27mm*; Footprint: Package_SO:SOIC-8_3.9x4.9mm_P1.27mm; Datasheet: https://www.ti.com/lit/ds/symlink/ref5030a-q1.pdf; Description_: 2.5V 0.1% 10mA Low Noise Precision Voltage Reference, SO-8
pins: 1 DNC, 2 Vin, 3 Temp, 4 GND, 5 Trim/NR, 6 Vout, 7 NC, 8 DNC

## REF5025ADGK
designator *  value REF5025ADGK  Reference: U
2.5V 0.1% 10mA Low Noise Precision Voltage Reference, MSOP-8; ki_keywords: Low Noise Precision Voltage Reference 2.5V; ki_fp_filters: MSOP*3x3mm*P0.65mm*; Footprint: Package_SO:MSOP-8_3x3mm_P0.65mm; Datasheet: https://www.ti.com/lit/ds/symlink/ref5030a-q1.pdf; Description_: 2.5V 0.1% 10mA Low Noise Precision Voltage Reference, MSOP-8
pins: 1 DNC, 2 Vin, 3 Temp, 4 GND, 5 Trim/NR, 6 Vout, 7 NC, 8 DNC

## REF5025ID
designator *  value REF5025ID  Reference: U
2.5V 0.05% 10mA Low Noise Precision Voltage Reference, SO-8; ki_keywords: Low Noise Precision Voltage Reference 2.5V; ki_fp_filters: SOIC*3.9x4.9mm*P1.27mm*; Footprint: Package_SO:SOIC-8_3.9x4.9mm_P1.27mm; Datasheet: https://www.ti.com/lit/ds/symlink/ref50.pdf; Description_: 2.5V 0.05% 10mA Low Noise Precision Voltage Reference, SO-8
pins: 1 DNC, 2 Vin, 3 Temp, 4 GND, 5 Trim/NR, 6 Vout, 7 NC, 8 DNC

## REF5025IDGK
designator *  value REF5025IDGK  Reference: U
2.5V 0.05% 10mA Low Noise Precision Voltage Reference, MSOP-8; ki_keywords: Low Noise Precision Voltage Reference 2.5V; ki_fp_filters: MSOP*3x3mm*P0.65mm*; Footprint: Package_SO:MSOP-8_3x3mm_P0.65mm; Datasheet: https://www.ti.com/lit/ds/symlink/ref50.pdf; Description_: 2.5V 0.05% 10mA Low Noise Precision Voltage Reference, MSOP-8
pins: 1 DNC, 2 Vin, 3 Temp, 4 GND, 5 Trim/NR, 6 Vout, 7 NC, 8 DNC

## REF5030AD
designator *  value REF5030AD  Reference: U
3V 0.1% 10mA Low Noise Precision Voltage Reference, SO-8; ki_keywords: Low Noise Precision Voltage Reference 3V; ki_fp_filters: SOIC*3.9x4.9mm*P1.27mm*; Footprint: Package_SO:SOIC-8_3.9x4.9mm_P1.27mm; Datasheet: https://www.ti.com/lit/ds/symlink/ref5030a-q1.pdf; Description_: 3V 0.1% 10mA Low Noise Precision Voltage Reference, SO-8
pins: 1 DNC, 2 Vin, 3 Temp, 4 GND, 5 Trim/NR, 6 Vout, 7 NC, 8 DNC

## REF5030ADGK
designator *  value REF5030ADGK  Reference: U
3V 0.1% 10mA Low Noise Precision Voltage Reference, MSOP-8; ki_keywords: Low Noise Precision Voltage Reference 3V; ki_fp_filters: MSOP*3x3mm*P0.65mm*; Footprint: Package_SO:MSOP-8_3x3mm_P0.65mm; Datasheet: https://www.ti.com/lit/ds/symlink/ref5030a-q1.pdf; Description_: 3V 0.1% 10mA Low Noise Precision Voltage Reference, MSOP-8
pins: 1 DNC, 2 Vin, 3 Temp, 4 GND, 5 Trim/NR, 6 Vout, 7 NC, 8 DNC

## REF5030ID
designator *  value REF5030ID  Reference: U
3V 0.05% 10mA Low Noise Precision Voltage Reference, SO-8; ki_keywords: Low Noise Precision Voltage Reference 3V; ki_fp_filters: SOIC*3.9x4.9mm*P1.27mm*; Footprint: Package_SO:SOIC-8_3.9x4.9mm_P1.27mm; Datasheet: https://www.ti.com/lit/ds/symlink/ref50.pdf; Description_: 3V 0.05% 10mA Low Noise Precision Voltage Reference, SO-8
pins: 1 DNC, 2 Vin, 3 Temp, 4 GND, 5 Trim/NR, 6 Vout, 7 NC, 8 DNC

## REF5030IDGK
designator *  value REF5030IDGK  Reference: U
3V 0.05% 10mA Low Noise Precision Voltage Reference, MSOP-8; ki_keywords: Low Noise Precision Voltage Reference 3V; ki_fp_filters: MSOP*3x3mm*P0.65mm*; Footprint: Package_SO:MSOP-8_3x3mm_P0.65mm; Datasheet: https://www.ti.com/lit/ds/symlink/ref50.pdf; Description_: 3V 0.05% 10mA Low Noise Precision Voltage Reference, MSOP-8
pins: 1 DNC, 2 Vin, 3 Temp, 4 GND, 5 Trim/NR, 6 Vout, 7 NC, 8 DNC

## REF5040AD
designator *  value REF5040AD  Reference: U
4.096V 0.1% 10mA Low Noise Precision Voltage Reference, SO-8; ki_keywords: Low Noise Precision Voltage Reference 4.096V; ki_fp_filters: SOIC*3.9x4.9mm*P1.27mm*; Footprint: Package_SO:SOIC-8_3.9x4.9mm_P1.27mm; Datasheet: https://www.ti.com/lit/ds/symlink/ref5030a-q1.pdf; Description_: 4.096V 0.1% 10mA Low Noise Precision Voltage Reference, SO-8
pins: 1 DNC, 2 Vin, 3 Temp, 4 GND, 5 Trim/NR, 6 Vout, 7 NC, 8 DNC

## REF5040ADGK
designator *  value REF5040ADGK  Reference: U
4.096V 0.1% 10mA Low Noise Precision Voltage Reference, MSOP-8; ki_keywords: Low Noise Precision Voltage Reference 4.096V; ki_fp_filters: MSOP*3x3mm*P0.65mm*; Footprint: Package_SO:MSOP-8_3x3mm_P0.65mm; Datasheet: https://www.ti.com/lit/ds/symlink/ref5030a-q1.pdf; Description_: 4.096V 0.1% 10mA Low Noise Precision Voltage Reference, MSOP-8
pins: 1 DNC, 2 Vin, 3 Temp, 4 GND, 5 Trim/NR, 6 Vout, 7 NC, 8 DNC

## REF5040ID
designator *  value REF5040ID  Reference: U
4.096V 0.05% 10mA Low Noise Precision Voltage Reference, SO-8; ki_keywords: Low Noise Precision Voltage Reference 4.096V; ki_fp_filters: SOIC*3.9x4.9mm*P1.27mm*; Footprint: Package_SO:SOIC-8_3.9x4.9mm_P1.27mm; Datasheet: https://www.ti.com/lit/ds/symlink/ref50.pdf; Description_: 4.096V 0.05% 10mA Low Noise Precision Voltage Reference, SO-8
pins: 1 DNC, 2 Vin, 3 Temp, 4 GND, 5 Trim/NR, 6 Vout, 7 NC, 8 DNC

## REF5040IDGK
designator *  value REF5040IDGK  Reference: U
4.096V 0.05% 10mA Low Noise Precision Voltage Reference, MSOP-8; ki_keywords: Low Noise Precision Voltage Reference 4.096V; ki_fp_filters: MSOP*3x3mm*P0.65mm*; Footprint: Package_SO:MSOP-8_3x3mm_P0.65mm; Datasheet: https://www.ti.com/lit/ds/symlink/ref50.pdf; Description_: 4.096V 0.05% 10mA Low Noise Precision Voltage Reference, MSOP-8
pins: 1 DNC, 2 Vin, 3 Temp, 4 GND, 5 Trim/NR, 6 Vout, 7 NC, 8 DNC

## REF5045AD
designator *  value REF5045AD  Reference: U
4.5V 0.1% 10mA Low Noise Precision Voltage Reference, SO-8; ki_keywords: Low Noise Precision Voltage Reference 4.5V; ki_fp_filters: SOIC*3.9x4.9mm*P1.27mm*; Footprint: Package_SO:SOIC-8_3.9x4.9mm_P1.27mm; Datasheet: https://www.ti.com/lit/ds/symlink/ref5030a-q1.pdf; Description_: 4.5V 0.1% 10mA Low Noise Precision Voltage Reference, SO-8
pins: 1 DNC, 2 Vin, 3 Temp, 4 GND, 5 Trim/NR, 6 Vout, 7 NC, 8 DNC

## REF5045ADGK
designator *  value REF5045ADGK  Reference: U
4.5V 0.1% 10mA Low Noise Precision Voltage Reference, MSOP-8; ki_keywords: Low Noise Precision Voltage Reference 4.5V; ki_fp_filters: MSOP*3x3mm*P0.65mm*; Footprint: Package_SO:MSOP-8_3x3mm_P0.65mm; Datasheet: https://www.ti.com/lit/ds/symlink/ref5030a-q1.pdf; Description_: 4.5V 0.1% 10mA Low Noise Precision Voltage Reference, MSOP-8
pins: 1 DNC, 2 Vin, 3 Temp, 4 GND, 5 Trim/NR, 6 Vout, 7 NC, 8 DNC

## REF5045ID
designator *  value REF5045ID  Reference: U
4.5V 0.05% 10mA Low Noise Precision Voltage Reference, SO-8; ki_keywords: Low Noise Precision Voltage Reference 4.5V; ki_fp_filters: SOIC*3.9x4.9mm*P1.27mm*; Footprint: Package_SO:SOIC-8_3.9x4.9mm_P1.27mm; Datasheet: https://www.ti.com/lit/ds/symlink/ref50.pdf; Description_: 4.5V 0.05% 10mA Low Noise Precision Voltage Reference, SO-8
pins: 1 DNC, 2 Vin, 3 Temp, 4 GND, 5 Trim/NR, 6 Vout, 7 NC, 8 DNC

## REF5045IDGK
designator *  value REF5045IDGK  Reference: U
4.5V 0.05% 10mA Low Noise Precision Voltage Reference, MSOP-8; ki_keywords: Low Noise Precision Voltage Reference 4.5V; ki_fp_filters: MSOP*3x3mm*P0.65mm*; Footprint: Package_SO:MSOP-8_3x3mm_P0.65mm; Datasheet: https://www.ti.com/lit/ds/symlink/ref50.pdf; Description_: 4.5V 0.05% 10mA Low Noise Precision Voltage Reference, MSOP-8
pins: 1 DNC, 2 Vin, 3 Temp, 4 GND, 5 Trim/NR, 6 Vout, 7 NC, 8 DNC

## REF5050AD
designator *  value REF5050AD  Reference: U
5V 0.1% 10mA Low Noise Precision Voltage Reference, SO-8; ki_keywords: Low Noise Precision Voltage Reference 5V; ki_fp_filters: SOIC*3.9x4.9mm*P1.27mm*; Footprint: Package_SO:SOIC-8_3.9x4.9mm_P1.27mm; Datasheet: https://www.ti.com/lit/ds/symlink/ref5030a-q1.pdf; Description_: 5V 0.1% 10mA Low Noise Precision Voltage Reference, SO-8
pins: 1 DNC, 2 Vin, 3 Temp, 4 GND, 5 Trim/NR, 6 Vout, 7 NC, 8 DNC

## REF5050ADGK
designator *  value REF5050ADGK  Reference: U
5V 0.1% 10mA Low Noise Precision Voltage Reference, MSOP-8; ki_keywords: Low Noise Precision Voltage Reference 5V; ki_fp_filters: MSOP*3x3mm*P0.65mm*; Footprint: Package_SO:MSOP-8_3x3mm_P0.65mm; Datasheet: https://www.ti.com/lit/ds/symlink/ref5030a-q1.pdf; Description_: 5V 0.1% 10mA Low Noise Precision Voltage Reference, MSOP-8
pins: 1 DNC, 2 Vin, 3 Temp, 4 GND, 5 Trim/NR, 6 Vout, 7 NC, 8 DNC

## REF5050ID
designator *  value REF5050ID  Reference: U
5V 0.05% 10mA Low Noise Precision Voltage Reference, SO-8; ki_keywords: Low Noise Precision Voltage Reference 5V; ki_fp_filters: SOIC*3.9x4.9mm*P1.27mm*; Footprint: Package_SO:SOIC-8_3.9x4.9mm_P1.27mm; Datasheet: https://www.ti.com/lit/ds/symlink/ref50.pdf; Description_: 5V 0.05% 10mA Low Noise Precision Voltage Reference, SO-8
pins: 1 DNC, 2 Vin, 3 Temp, 4 GND, 5 Trim/NR, 6 Vout, 7 NC, 8 DNC

## REF5050IDGK
designator *  value REF5050IDGK  Reference: U
5V 0.05% 10mA Low Noise Precision Voltage Reference, MSOP-8; ki_keywords: Low Noise Precision Voltage Reference 5V; ki_fp_filters: MSOP*3x3mm*P0.65mm*; Footprint: Package_SO:MSOP-8_3x3mm_P0.65mm; Datasheet: https://www.ti.com/lit/ds/symlink/ref50.pdf; Description_: 5V 0.05% 10mA Low Noise Precision Voltage Reference, MSOP-8
pins: 1 DNC, 2 Vin, 3 Temp, 4 GND, 5 Trim/NR, 6 Vout, 7 NC, 8 DNC

## REF6025xDGK
designator *  value REF6025xDGK  Reference: U
2.5V 0.05% 4mA Extremely Low Noise High Precision Voltage Reference, VSSOP-8; ki_keywords: low Noise precision voltage reference; ki_fp_filters: VSSOP*3x3mm*P0.65mm*; Footprint: Package_SO:VSSOP-8_3x3mm_P0.65mm; Datasheet: https://www.ti.com/lit/ds/symlink/ref6025.pdf; Description_: 2.5V 0.05% 4mA Extremely Low Noise High Precision Voltage Reference, VSSOP-8
pins: 1 VIN, 2 EN, 3 SS, 4 FILT, 5 OUT_S, 6 OUT_F, 7 GND_F, 8 GND_S

## REF6030xDGK
designator *  value REF6030xDGK  Reference: U
3.0V 0.05% 4mA Extremely Low Noise High Precision Voltage Reference, VSSOP-8; ki_keywords: low Noise precision voltage reference; ki_fp_filters: VSSOP*3x3mm*P0.65mm*; Footprint: Package_SO:VSSOP-8_3x3mm_P0.65mm; Datasheet: https://www.ti.com/lit/ds/symlink/ref6025.pdf; Description_: 3.0V 0.05% 4mA Extremely Low Noise High Precision Voltage Reference, VSSOP-8
pins: 1 VIN, 2 EN, 3 SS, 4 FILT, 5 OUT_S, 6 OUT_F, 7 GND_F, 8 GND_S

## REF6033xDGK
designator *  value REF6033xDGK  Reference: U
3.3V 0.05% 4mA Extremely Low Noise High Precision Voltage Reference, VSSOP-8; ki_keywords: low Noise precision voltage reference; ki_fp_filters: VSSOP*3x3mm*P0.65mm*; Footprint: Package_SO:VSSOP-8_3x3mm_P0.65mm; Datasheet: https://www.ti.com/lit/ds/symlink/ref6025.pdf; Description_: 3.3V 0.05% 4mA Extremely Low Noise High Precision Voltage Reference, VSSOP-8
pins: 1 VIN, 2 EN, 3 SS, 4 FILT, 5 OUT_S, 6 OUT_F, 7 GND_F, 8 GND_S

## REF6041xDGK
designator *  value REF6041xDGK  Reference: U
4.1V 0.05% 4mA Extremely Low Noise High Precision Voltage Reference, VSSOP-8; ki_keywords: low Noise precision voltage reference; ki_fp_filters: VSSOP*3x3mm*P0.65mm*; Footprint: Package_SO:VSSOP-8_3x3mm_P0.65mm; Datasheet: https://www.ti.com/lit/ds/symlink/ref6025.pdf; Description_: 4.1V 0.05% 4mA Extremely Low Noise High Precision Voltage Reference, VSSOP-8
pins: 1 VIN, 2 EN, 3 SS, 4 FILT, 5 OUT_S, 6 OUT_F, 7 GND_F, 8 GND_S

## REF6045xDGK
designator *  value REF6045xDGK  Reference: U
4.5V 0.05% 4mA Extremely Low Noise High Precision Voltage Reference, VSSOP-8; ki_keywords: low Noise precision voltage reference; ki_fp_filters: VSSOP*3x3mm*P0.65mm*; Footprint: Package_SO:VSSOP-8_3x3mm_P0.65mm; Datasheet: https://www.ti.com/lit/ds/symlink/ref6025.pdf; Description_: 4.5V 0.05% 4mA Extremely Low Noise High Precision Voltage Reference, VSSOP-8
pins: 1 VIN, 2 EN, 3 SS, 4 FILT, 5 OUT_S, 6 OUT_F, 7 GND_F, 8 GND_S

## REF6050xDGK
designator *  value REF6050xDGK  Reference: U
5.0V 0.05% 4mA Extremely Low Noise High Precision Voltage Reference, VSSOP-8; ki_keywords: low Noise precision voltage reference; ki_fp_filters: VSSOP*3x3mm*P0.65mm*; Footprint: Package_SO:VSSOP-8_3x3mm_P0.65mm; Datasheet: https://www.ti.com/lit/ds/symlink/ref6025.pdf; Description_: 5.0V 0.05% 4mA Extremely Low Noise High Precision Voltage Reference, VSSOP-8
pins: 1 VIN, 2 EN, 3 SS, 4 FILT, 5 OUT_S, 6 OUT_F, 7 GND_F, 8 GND_S

## REF35102QDBVR
designator *  value REF35102QDBVR  Reference: U
1.024V, Ultra Low-Power, High-Precision Voltage Reference, SOT-23-6; ki_fp_filters: SOT?23*; Footprint: Package_TO_SOT_SMD:SOT-23-6; Datasheet: https://www.ti.com/lit/ds/symlink/ref35.pdf; Description_: 1.024V, Ultra Low-Power, High-Precision Voltage Reference, SOT-23-6
pins: 1 GND, 2 GND, 3 EN, 4 VIN, 5 NR, 6 VREF

## REF35120QDBVR
designator *  value REF35120QDBVR  Reference: U
1.2V, Ultra Low-Power, High-Precision Voltage Reference, SOT-23-6; ki_fp_filters: SOT?23*; Footprint: Package_TO_SOT_SMD:SOT-23-6; Datasheet: https://www.ti.com/lit/ds/symlink/ref35.pdf; Description_: 1.2V, Ultra Low-Power, High-Precision Voltage Reference, SOT-23-6
pins: 1 GND, 2 GND, 3 EN, 4 VIN, 5 NR, 6 VREF

## REF35125QDBVR
designator *  value REF35125QDBVR  Reference: U
1.25V, Ultra Low-Power, High-Precision Voltage Reference, SOT-23-6; ki_fp_filters: SOT?23*; Footprint: Package_TO_SOT_SMD:SOT-23-6; Datasheet: https://www.ti.com/lit/ds/symlink/ref35.pdf; Description_: 1.25V, Ultra Low-Power, High-Precision Voltage Reference, SOT-23-6
pins: 1 GND, 2 GND, 3 EN, 4 VIN, 5 NR, 6 VREF

## REF35160QDBVR
designator *  value REF35160QDBVR  Reference: U
1.6V, Ultra Low-Power, High-Precision Voltage Reference, SOT-23-6; ki_fp_filters: SOT?23*; Footprint: Package_TO_SOT_SMD:SOT-23-6; Datasheet: https://www.ti.com/lit/ds/symlink/ref35.pdf; Description_: 1.6V, Ultra Low-Power, High-Precision Voltage Reference, SOT-23-6
pins: 1 GND, 2 GND, 3 EN, 4 VIN, 5 NR, 6 VREF

## REF35170QDBVR
designator *  value REF35170QDBVR  Reference: U
1.7V, Ultra Low-Power, High-Precision Voltage Reference, SOT-23-6; ki_fp_filters: SOT?23*; Footprint: Package_TO_SOT_SMD:SOT-23-6; Datasheet: https://www.ti.com/lit/ds/symlink/ref35.pdf; Description_: 1.7V, Ultra Low-Power, High-Precision Voltage Reference, SOT-23-6
pins: 1 GND, 2 GND, 3 EN, 4 VIN, 5 NR, 6 VREF

## REF35180QDBVR
designator *  value REF35180QDBVR  Reference: U
1.8V, Ultra Low-Power, High-Precision Voltage Reference, SOT-23-6; ki_fp_filters: SOT?23*; Footprint: Package_TO_SOT_SMD:SOT-23-6; Datasheet: https://www.ti.com/lit/ds/symlink/ref35.pdf; Description_: 1.8V, Ultra Low-Power, High-Precision Voltage Reference, SOT-23-6
pins: 1 GND, 2 GND, 3 EN, 4 VIN, 5 NR, 6 VREF

## REF35205QDBVR
designator *  value REF35205QDBVR  Reference: U
2.048V, Ultra Low-Power, High-Precision Voltage Reference, SOT-23-6; ki_fp_filters: SOT?23*; Footprint: Package_TO_SOT_SMD:SOT-23-6; Datasheet: https://www.ti.com/lit/ds/symlink/ref35.pdf; Description_: 2.048V, Ultra Low-Power, High-Precision Voltage Reference, SOT-23-6
pins: 1 GND, 2 GND, 3 EN, 4 VIN, 5 NR, 6 VREF

## REF35250QDBVR
designator *  value REF35250QDBVR  Reference: U
2.5V, Ultra Low-Power, High-Precision Voltage Reference, SOT-23-6; ki_fp_filters: SOT?23*; Footprint: Package_TO_SOT_SMD:SOT-23-6; Datasheet: https://www.ti.com/lit/ds/symlink/ref35.pdf; Description_: 2.5V, Ultra Low-Power, High-Precision Voltage Reference, SOT-23-6
pins: 1 GND, 2 GND, 3 EN, 4 VIN, 5 NR, 6 VREF

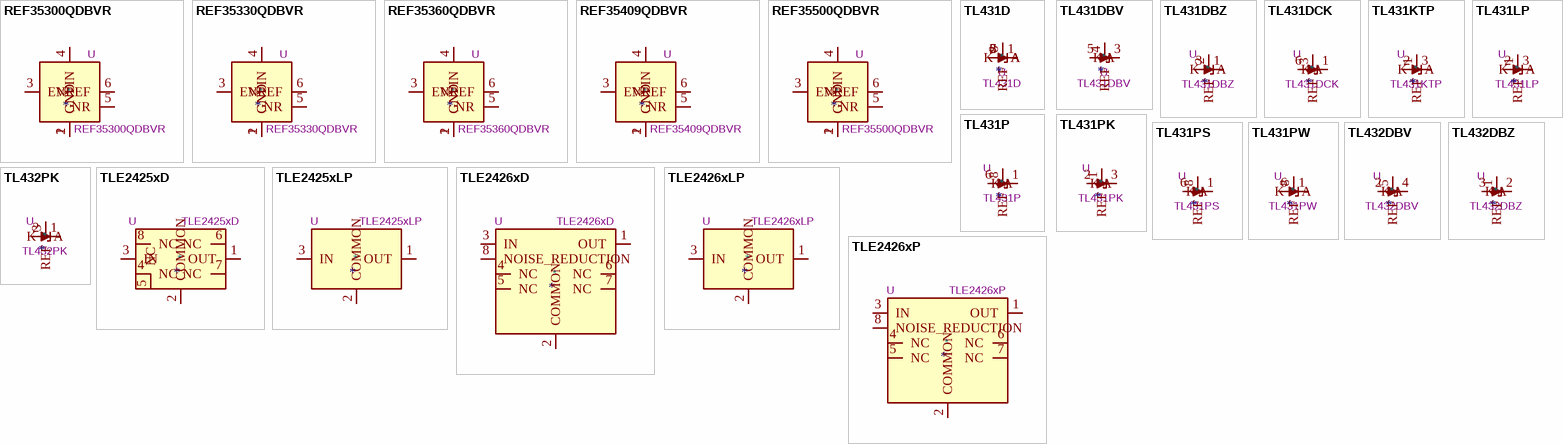
[diagram p8: symbols REF35300QDBVR to TLE2426xP]

## REF35300QDBVR
designator *  value REF35300QDBVR  Reference: U
3.0V, Ultra Low-Power, High-Precision Voltage Reference, SOT-23-6; ki_fp_filters: SOT?23*; Footprint: Package_TO_SOT_SMD:SOT-23-6; Datasheet: https://www.ti.com/lit/ds/symlink/ref35.pdf; Description_: 3.0V, Ultra Low-Power, High-Precision Voltage Reference, SOT-23-6
pins: 1 GND, 2 GND, 3 EN, 4 VIN, 5 NR, 6 VREF

## REF35330QDBVR
designator *  value REF35330QDBVR  Reference: U
3.3V, Ultra Low-Power, High-Precision Voltage Reference, SOT-23-6; ki_fp_filters: SOT?23*; Footprint: Package_TO_SOT_SMD:SOT-23-6; Datasheet: https://www.ti.com/lit/ds/symlink/ref35.pdf; Description_: 3.3V, Ultra Low-Power, High-Precision Voltage Reference, SOT-23-6
pins: 1 GND, 2 GND, 3 EN, 4 VIN, 5 NR, 6 VREF

## REF35360QDBVR
designator *  value REF35360QDBVR  Reference: U
3.6V, Ultra Low-Power, High-Precision Voltage Reference, SOT-23-6; ki_fp_filters: SOT?23*; Footprint: Package_TO_SOT_SMD:SOT-23-6; Datasheet: https://www.ti.com/lit/ds/symlink/ref35.pdf; Description_: 3.6V, Ultra Low-Power, High-Precision Voltage Reference, SOT-23-6
pins: 1 GND, 2 GND, 3 EN, 4 VIN, 5 NR, 6 VREF

## REF35409QDBVR
designator *  value REF35409QDBVR  Reference: U
4.096V, Ultra Low-Power, High-Precision Voltage Reference, SOT-23-6; ki_fp_filters: SOT?23*; Footprint: Package_TO_SOT_SMD:SOT-23-6; Datasheet: https://www.ti.com/lit/ds/symlink/ref35.pdf; Description_: 4.096V, Ultra Low-Power, High-Precision Voltage Reference, SOT-23-6
pins: 1 GND, 2 GND, 3 EN, 4 VIN, 5 NR, 6 VREF

## REF35500QDBVR
designator *  value REF35500QDBVR  Reference: U
5.0V, Ultra Low-Power, High-Precision Voltage Reference, SOT-23-6; ki_fp_filters: SOT?23*; Footprint: Package_TO_SOT_SMD:SOT-23-6; Datasheet: https://www.ti.com/lit/ds/symlink/ref35.pdf; Description_: 5.0V, Ultra Low-Power, High-Precision Voltage Reference, SOT-23-6
pins: 1 GND, 2 GND, 3 EN, 4 VIN, 5 NR, 6 VREF

## TL431D
designator *  value TL431D  Reference: U
Shunt Regulator, SO-8; ki_keywords: diode device shunt regulator; ki_fp_filters: SOIC?8*3.9x4.9mm*P1.27mm*; Footprint: Package_SO:SOIC-8_3.9x4.9mm_P1.27mm; Datasheet: http://www.ti.com/lit/ds/symlink/tl431.pdf; Description_: Shunt Regulator, SO-8
pins: 1 K, 2 A, 3 A, 6 A, 7 A, 8 REF

## TL431DBV
designator *  value TL431DBV  Reference: U
Shunt Regulator, SOT-23-5; ki_keywords: diode device shunt regulator; ki_fp_filters: SOT?23?5*; Footprint: Package_TO_SOT_SMD:SOT-23-5; Datasheet: http://www.ti.com/lit/ds/symlink/tl431.pdf; Description_: Shunt Regulator, SOT-23-5
pins: 3 K, 4 REF, 5 A

## TL431DBZ
designator *  value TL431DBZ  Reference: U
Shunt Regulator, SOT-23; ki_keywords: diode device shunt regulator; ki_fp_filters: SOT?23*; Footprint: Package_TO_SOT_SMD:SOT-23; Datasheet: http://www.ti.com/lit/ds/symlink/tl431.pdf; Description_: Shunt Regulator, SOT-23
pins: 1 K, 2 REF, 3 A

## TL431DCK
designator *  value TL431DCK  Reference: U
Shunt Regulator, SC-70; ki_keywords: diode device shunt regulator; ki_fp_filters: *SC?70*; Footprint: Package_TO_SOT_SMD:SOT-363_SC-70-6; Datasheet: http://www.ti.com/lit/ds/symlink/tl431.pdf; Description_: Shunt Regulator, SC-70
pins: 1 K, 3 REF, 6 A